# EAGLE library part MAX30100 (library CattleFit)
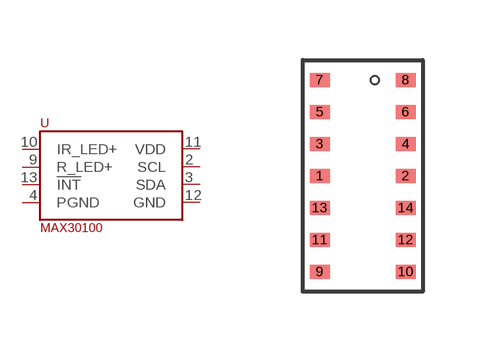
[diagram p3: symbol with the pads of 21-0880; footprint 21-0880]

Designator prefix -

## MAX30100 (MANUFACTURER: Maxim Integrated; PARTNO: MAX30100; VALUE: MAX30100)  [21-0880]
2  SCL
3  SDA
4  PGND
9  R_LED+
10  IR_LED+
11  VDD
12  GND
13  !INT

## Footprint 21-0880 (pad centres in mm)
smd 0.5 x 0.35: 1 -1.075,0; 2 1.075,0; 3 -1.075,0.8; 4 1.075,0.8; 5 -1.075,1.6; 6 1.075,1.6; 7 -1.075,2.4; 8 1.075,2.4; 9 -1.075,-2.4; 10 1.075,-2.4; 11 -1.075,-1.6; 12 1.075,-1.6; 13 -1.075,-0.8; 14 1.075,-0.8